# Altium footprint library SMD Library.PcbLib: 53 footprints (part 3 of 4)
Each footprint in its own frame and in the unit in brackets; x right, y up, seen from the top. Pads: shape width x height; smd on the part's side, far side on the other; paste and mask are expansions set on the pad; w line width, h text height; cw(c..) or ccw(c..) is an arc to the next point about the centre after c.
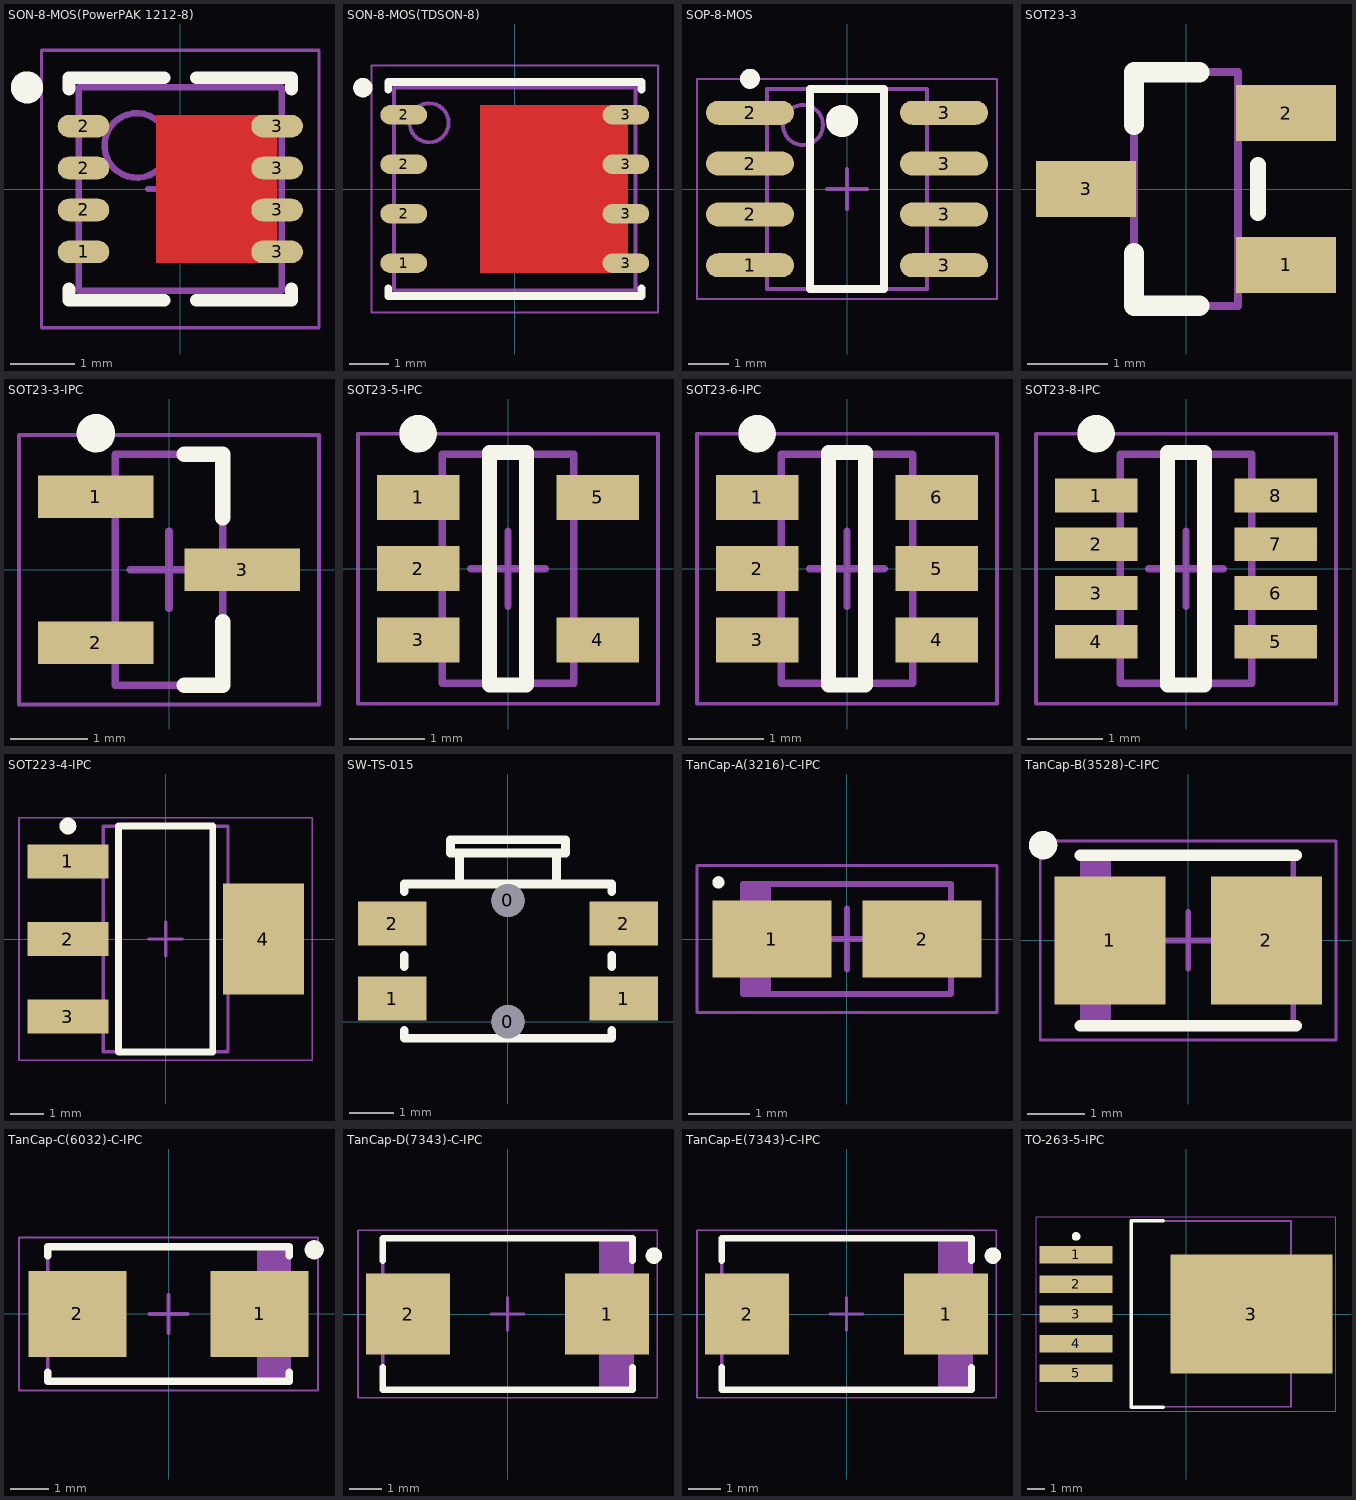
[diagram p2: the footprints below, top view; thin cyan lines are the x and y axes]

## SON-8-MOS(PowerPAK 1212-8) [mm] "SON, 8-Leads, MOSFET Package, Body 3.05x3.05mm, Pitch 0.65mm"
height 1
pads (8):
  oval 0.8x0.35 smd: 1(-1.5,-0.975) 2(-1.5,-0.325) 2(-1.5,0.325) 2(-1.5,0.975) 3(1.5,-0.975) 3(1.5,-0.325) 3(1.5,0.325) 3(1.5,0.975)
Top Layer:
  rectangle: -0.375,-1.15 1.5,1.15
Top Overlay:
  circle w0.25: c-2.375,1.575 r0.125
  lines w0.2: -1.725,-1.55 -1.725,-1.725 -0.25,-1.725 ; -1.725,1.55 -1.725,1.725 -0.25,1.725 ; 0.25,-1.725 1.725,-1.725 1.725,-1.55 ; 0.25,1.725 1.725,1.725 1.725,1.55
Top Solder:
  rectangle: -0.45,-1.225 1.575,1.225
Mechanical 13:
  circle w0.1: c-0.675,0.675 r0.5
  lines w0.1: -1.575,-1.575 -1.575,1.575 1.575,1.575 1.575,-1.575 -1.575,-1.575
Mechanical 15:
  lines w0.05: -2.15,-2.15 -2.15,2.15 2.15,2.15 2.15,-2.15 -2.15,-2.15
  lines w0.1: -0.5,0 0.5,0 ; 0,-0.5 0,0.5
3D body: height 1, standoff 0.1, extent -1.575,-1.575 1.575,1.575

## SON-8-MOS(TDSON-8) [mm] "QFN, 8-Leads, Body 5.00x6.00mm, Pitch 1.27mm, IPC Medium Density"
height 1.1
pads (8):
  oval 1.2x0.5 smd: 1(-2.85,-1.905) 2(-2.85,-0.635) 2(-2.85,0.635) 2(-2.85,1.905) 3(2.85,-1.905) 3(2.85,-0.635) 3(2.85,0.635) 3(2.85,1.905)
Top Layer:
  rectangle: -0.9,-2.15 2.9,2.15
Top Overlay:
  circle w0.25: c-3.9,2.6 r0.125
  lines w0.2: -3.25,-2.555 -3.25,-2.75 -0.015,-2.75 ; -3.25,2.555 -3.25,2.75 -0.015,2.75 ; 0.015,-2.75 3.25,-2.75 3.25,-2.555 ; 0.015,2.75 3.25,2.75 3.25,2.555
Top Solder:
  rectangle: -1,-2.25 3,2.25
Mechanical 13:
  circle w0.1: c-2.2,1.7 r0.5
  lines w0.1: -3.1,-2.6 -3.1,2.6 3.1,2.6 3.1,-2.6 -3.1,-2.6
Mechanical 15:
  lines w0.05: -3.675,-3.175 -3.675,3.175 3.675,3.175 3.675,-3.175 -3.675,-3.175
  lines w0.1: -0.5,0 0.5,0 ; 0,-0.5 0,0.5
3D body: height 1.1, standoff 0.1, extent -3.1,-2.6 3.1,2.6

## SOP-8-MOS [mm] "SOP, 8-Leads, Body 4.90x3.90mm, Pitch 1.27mm, IPC Medium Density"
height 1.75
pads (8):
  oval 2.2x0.6 smd: 1(-2.425,-1.905) 2(-2.425,-0.635) 2(-2.425,0.635) 2(-2.425,1.905) 3(2.425,-1.905) 3(2.425,-0.635) 3(2.425,0.635) 3(2.425,1.905)
Top Overlay:
  circle w0.25: c-2.425,2.755 r0.125
  circle w0.4: c-0.125,1.7 r0.2
  lines w0.2: -0.925,-2.5 -0.925,2.5 0.925,2.5 0.925,-2.5 -0.925,-2.5
Mechanical 13:
  circle w0.1: c-1.1,1.6 r0.5
  lines w0.1: -2,-2.5 -2,2.5 2,2.5 2,-2.5 -2,-2.5
Mechanical 15:
  lines w0.05: -3.75,-2.75 -3.75,2.75 3.75,2.75 3.75,-2.75 -3.75,-2.75
  lines w0.1: -0.5,0 0.5,0 ; 0,-0.5 0,0.5
3D body: height 1.75, standoff 0.2, extent -2,-2.5 2,2.5

## SOT23-3 [mm]
pads (3):
  rect 1.25x0.7 smd: 1(1.25,-0.95) 2(1.25,0.95) 3(-1.25,0)
Top Overlay:
  lines w0.2: 0.9,-0.3 0.9,0.3
  lines w0.254: -0.65,-0.8 -0.65,-1.46 0.165,-1.46 ; 0.165,1.46 -0.65,1.46 ; -0.65,0.8 -0.65,1.46 ; -0.65,0.8 -0.65,1.46 ; -0.65,0.8 -0.65,1.46
Mechanical 13:
  lines w0.1: -0.65,-1.46 -0.65,1.46 ; -0.65,-1.46 0.65,-1.46 ; -0.65,-1.46 0.65,-1.46 ; -0.65,-1.46 -0.65,1.46 ; -0.65,-1.46 0.65,-1.46 ; -0.65,-1.46 -0.65,1.46 ; -0.65,1.46 0.65,1.46 ; -0.65,1.46 0.65,1.46 ; -0.65,1.46 0.65,1.46 ; 0.65,-1.46 0.65,1.46 ; 0.65,-1.46 0.65,1.46 ; 0.65,-1.46 0.65,1.46
3D body "SOT-23.step": height 1.3, standoff 0, extent -1.5,-1.5 1.5,1.5

## SOT23-3-IPC [mm] "SOT23, 3-Leads, Body 2.90x2.45mm, Pitch 0.95mm, IPC Medium Density"
height 1.1
pads (3):
  rect 1.5x0.55 smd: 1(-0.95,0.95) 2(-0.95,-0.95) 3(0.95,0)
Top Overlay:
  circle w0.25: c-0.95,1.775 r0.125
  lines w0.2: 0.2,-1.5 0.7,-1.5 0.7,-0.675 ; 0.2,1.5 0.7,1.5 0.7,0.675
Mechanical 13:
  lines w0.1: -0.7,-1.5 0.7,-1.5 0.7,1.5 -0.7,1.5 -0.7,-1.5
Mechanical 15:
  lines w0.05: -1.95,-1.75 1.95,-1.75 1.95,1.75 -1.95,1.75 -1.95,-1.75
  lines w0.1: -0.5,0 0.5,0 ; 0,-0.5 0,0.5
3D body: height 1.1, standoff 0.05, extent -0.7,-1.5 0.7,1.5

## SOT23-5-IPC [mm] "SOT23, 5-Leads, Body 2.90x2.80mm, Pitch 0.95mm, IPC Medium Density"
height 1.45
pads (5):
  rect 1.1x0.6 smd: 1(-1.2,0.95) 2(-1.2,0) 3(-1.2,-0.95) 4(1.2,-0.95) 5(1.2,0.95)
Top Overlay:
  circle w0.25: c-1.2,1.8 r0.125
  lines w0.2: -0.25,-1.55 -0.25,1.55 0.25,1.55 0.25,-1.55 -0.25,-1.55
Mechanical 13:
  lines w0.1: -0.875,-1.525 0.875,-1.525 0.875,1.525 -0.875,1.525 -0.875,-1.525
Mechanical 15:
  lines w0.05: -2,-1.8 2,-1.8 2,1.8 -2,1.8 -2,-1.8
  lines w0.1: -0.5,0 0.5,0 ; 0,-0.5 0,0.5
3D body: height 1.45, standoff 0.15, extent -0.875,-1.525 0.875,1.525

## SOT23-6-IPC [mm] "SOT23, 6-Leads, Body 2.90x2.80mm, Pitch 0.95mm, IPC Medium Density"
height 1.45
pads (6):
  rect 1.1x0.6 smd: 1(-1.2,0.95) 2(-1.2,0) 3(-1.2,-0.95) 4(1.2,-0.95) 5(1.2,0) 6(1.2,0.95)
Top Overlay:
  circle w0.25: c-1.2,1.8 r0.125
  lines w0.2: -0.25,-1.55 0.25,-1.55 0.25,1.55 -0.25,1.55 -0.25,-1.55
Mechanical 13:
  lines w0.1: -0.875,-1.525 -0.875,1.525 0.875,1.525 0.875,-1.525 -0.875,-1.525
Mechanical 15:
  lines w0.05: -2,-1.8 -2,1.8 2,1.8 2,-1.8 -2,-1.8
  lines w0.1: -0.5,0 0.5,0 ; 0,-0.5 0,0.5
3D body: height 1.45, standoff 0.15, extent -0.875,-1.525 0.875,1.525

## SOT23-8-IPC [mm] "SOT23, 8-Leads, Body 2.90x2.80mm, Pitch 0.65mm, IPC Medium Density"
height 1.45
pads (8):
  rect 1.1x0.45 smd: 1(-1.2,0.975) 2(-1.2,0.325) 3(-1.2,-0.325) 4(-1.2,-0.975) 5(1.2,-0.975) 6(1.2,-0.325) 7(1.2,0.325) 8(1.2,0.975)
Top Overlay:
  circle w0.25: c-1.2,1.8 r0.125
  lines w0.2: -0.25,-1.55 -0.25,1.55 0.25,1.55 0.25,-1.55 -0.25,-1.55
Mechanical 13:
  lines w0.1: -0.875,-1.525 0.875,-1.525 0.875,1.525 -0.875,1.525 -0.875,-1.525
Mechanical 15:
  lines w0.05: -2,-1.8 2,-1.8 2,1.8 -2,1.8 -2,-1.8
  lines w0.1: -0.5,0 0.5,0 ; 0,-0.5 0,0.5
3D body: height 1.45, standoff 0.15, extent -0.875,-1.525 0.875,1.525

## SOT223-4-IPC [mm] "SOT223, 4-Leads, Body 6.50x7.00mm (avg), Pitch 2.30mm, IPC Medium Density"
height 1.8
pads (4):
  rect 2.4x1 smd: 1(-2.9,2.3) 2(-2.9,0) 3(-2.9,-2.3)
  rect 2.4x3.3 smd: 4(2.9,0)
Top Overlay:
  circle w0.25: c-2.9,3.35 r0.125
  lines w0.2: -1.4,-3.35 1.4,-3.35 1.4,3.35 -1.4,3.35 -1.4,-3.35
Mechanical 13:
  lines w0.1: -1.85,-3.35 1.85,-3.35 1.85,3.35 -1.85,3.35 -1.85,-3.35
Mechanical 15:
  lines w0.05: -4.35,-3.6 4.35,-3.6 4.35,3.6 -4.35,3.6 -4.35,-3.6
  lines w0.1: -0.5,0 0.5,0 ; 0,-0.5 0,0.5
3D body: height 1.8, standoff 0.02, extent -1.85,-3.35 1.85,3.35

## SW-TS-015 [mm] "Single Push Button, Medium Size, 4 Pins"
height 1.6
pads (6):
  round 0.75 hole 0.75: 0(0,0) 0(0,2.75)
  rect 1.55x1 smd: 1(-2.625,0.525) 1(2.625,0.525) 2(-2.625,2.225) 2(2.625,2.225)
Top Overlay:
  lines w0.2: -2.35,-0.2 -2.35,-0.375 2.35,-0.375 2.35,-0.2 ; -2.35,1.25 -2.35,1.5 ; -2.35,2.95 -2.35,3.125 2.35,3.125 2.35,2.95 ; -1.1,3.125 -1.1,3.825 ; 1.1,3.125 1.1,3.825 ; 2.35,1.25 2.35,1.5 ; -1.3,3.825 -1.3,4.125 1.3,4.125 1.3,3.825 -1.3,3.825
3D body: height 1.2, standoff 0.7, extent -1.1,3.125 1.1,3.825
3D body: height 1.5, standoff 0.1, extent -1.3,3.825 1.3,4.125
3D body: height 1.6, standoff 0, extent -2.35,-0.375 2.35,3.125

## TanCap-A(3216)-C-IPC [mm] "Molded Capacitor, 2-Leads, Body 3.20x1.60mm, IPC Medium Density"
height 1.8
pads (2):
  rect 1.95x1.25 smd: 1(-1.225,0) 2(1.225,0)
Top Overlay:
  circle w0.1: c-2.1,0.925 r0.05
Mechanical 13:
  rectangle: -1.7,-0.9 -1.243,0.9
  lines w0.1: -1.7,-0.9 1.7,-0.9 1.7,0.9 -1.7,0.9 -1.7,-0.9
Mechanical 15:
  lines w0.05: -2.45,-1.2 2.45,-1.2 2.45,1.2 -2.45,1.2 -2.45,-1.2
  lines w0.1: -0.5,0 0.5,0 ; 0,-0.5 0,0.5
3D body: height 1.8, standoff 0, extent -1.7,-0.9 1.7,0.9

## TanCap-B(3528)-C-IPC [mm] "Molded Capacitor, 2-Leads, Body 3.50x2.80mm, IPC Medium Density"
height 2.1
pads (2):
  rect 1.95x2.25 smd: 1(-1.375,0) 2(1.375,0)
Top Overlay:
  circle w0.25: c-2.55,1.675 r0.125
  lines w0.2: -1.9,-1.5 1.9,-1.5 ; -1.9,1.5 1.9,1.5
Mechanical 13:
  rectangle: -1.85,-1.5 -1.352,1.5
  lines w0.1: -1.85,-1.5 1.85,-1.5 1.85,1.5 -1.85,1.5 -1.85,-1.5
Mechanical 15:
  lines w0.05: -2.6,-1.75 2.6,-1.75 2.6,1.75 -2.6,1.75 -2.6,-1.75
  lines w0.1: -0.5,0 0.5,0 ; 0,-0.5 0,0.5
3D body: height 2.1, standoff 0, extent -1.85,-1.5 1.85,1.5

## TanCap-C(6032)-C-IPC [mm] "Molded Capacitor, 2-Leads, Body 6.00x3.20mm, IPC Medium Density"
height 2.8
pads (2):
  rect 2.55x2.25 smd: 1(2.375,0) 2(-2.375,0)
Top Overlay:
  circle w0.25: c3.8,1.675 r0.125
  lines w0.2: -3.15,-1.525 -3.15,-1.75 3.15,-1.75 3.15,-1.525 ; -3.15,1.525 -3.15,1.75 3.15,1.75 3.15,1.525
Mechanical 13:
  rectangle: 2.303,-1.75 3.15,1.75
  lines w0.1: -3.15,-1.75 3.15,-1.75 3.15,1.75 -3.15,1.75 -3.15,-1.75
Mechanical 15:
  lines w0.05: -3.9,-2 3.9,-2 3.9,2 -3.9,2 -3.9,-2
  lines w0.1: -0.5,0 0.5,0 ; 0,-0.5 0,0.5
3D body: height 2.8, standoff 0, extent -3.15,-1.75 3.15,1.75

## TanCap-D(7343)-C-IPC [mm] "Molded Capacitor, 2-Leads, Body 7.30x4.30mm, IPC Medium Density"
height 3.1
pads (2):
  rect 2.55x2.45 smd: 1(3.025,0) 2(-3.025,0)
Top Overlay:
  circle w0.25: c4.45,1.775 r0.125
  lines w0.2: -3.8,-1.625 -3.8,-2.3 3.8,-2.3 3.8,-1.625 ; -3.8,1.625 -3.8,2.3 3.8,2.3 3.8,1.625
Mechanical 13:
  rectangle: 2.778,-2.3 3.8,2.3
  lines w0.1: -3.8,-2.3 -3.8,2.3 3.8,2.3 3.8,-2.3 -3.8,-2.3
Mechanical 15:
  lines w0.05: -4.55,-2.55 -4.55,2.55 4.55,2.55 4.55,-2.55 -4.55,-2.55
  lines w0.1: -0.5,0 0.5,0 ; 0,-0.5 0,0.5
3D body: height 3.1, standoff 0, extent -3.8,-2.3 3.8,2.3

## TanCap-E(7343)-C-IPC [mm] "Molded Capacitor, 2-Leads, Body 7.30x4.30mm, IPC Medium Density"
height 4.3
pads (2):
  rect 2.55x2.45 smd: 1(3.025,0) 2(-3.025,0)
Top Overlay:
  circle w0.25: c4.45,1.775 r0.125
  lines w0.2: -3.8,-1.625 -3.8,-2.3 3.8,-2.3 3.8,-1.625 ; -3.8,1.625 -3.8,2.3 3.8,2.3 3.8,1.625
Mechanical 13:
  rectangle: 2.778,-2.3 3.8,2.3
  lines w0.1: -3.8,-2.3 -3.8,2.3 3.8,2.3 3.8,-2.3 -3.8,-2.3
Mechanical 15:
  lines w0.05: -4.55,-2.55 -4.55,2.55 4.55,2.55 4.55,-2.55 -4.55,-2.55
  lines w0.1: -0.5,0 0.5,0 ; 0,-0.5 0,0.5
3D body: height 4.3, standoff 0, extent -3.8,-2.3 3.8,2.3

## TO-263-5-IPC [mm] "D2-PAK, 6-Pads, Body 7.69x8.69mm (max), IPC Medium Density"
height 4.6
pads (6):
  rect 4.2x1 smd: 1(-6.3,3.4) 2(-6.3,1.7) 3(-6.3,0) 4(-6.3,-1.7) 5(-6.3,-3.4)
  rect 9.3x6.8 smd: 3(3.75,0)
Top Overlay:
  circle w0.25: c-6.3,4.45 r0.125
  lines w0.2: -1.3,-5.35 -3.15,-5.35 -3.15,5.35 -1.3,5.35
Mechanical 13:
  lines w0.1: -3.15,-5.325 6.02,-5.325 6.02,5.325 -3.15,5.325 -3.15,-5.325
Mechanical 15:
  lines w0.05: -8.6,-5.575 8.6,-5.575 8.6,5.575 -8.6,5.575 -8.6,-5.575
  lines w0.1: -0.5,0 0.5,0 ; 0,-0.5 0,0.5
3D body: height 4.6, standoff 0.3, extent -3.15,-5.325 6.02,5.325